# Altium schematic symbol library module&chips.SchLib: 53 symbols
Pins are listed as number, name and electrical type; pins without a type are passive.

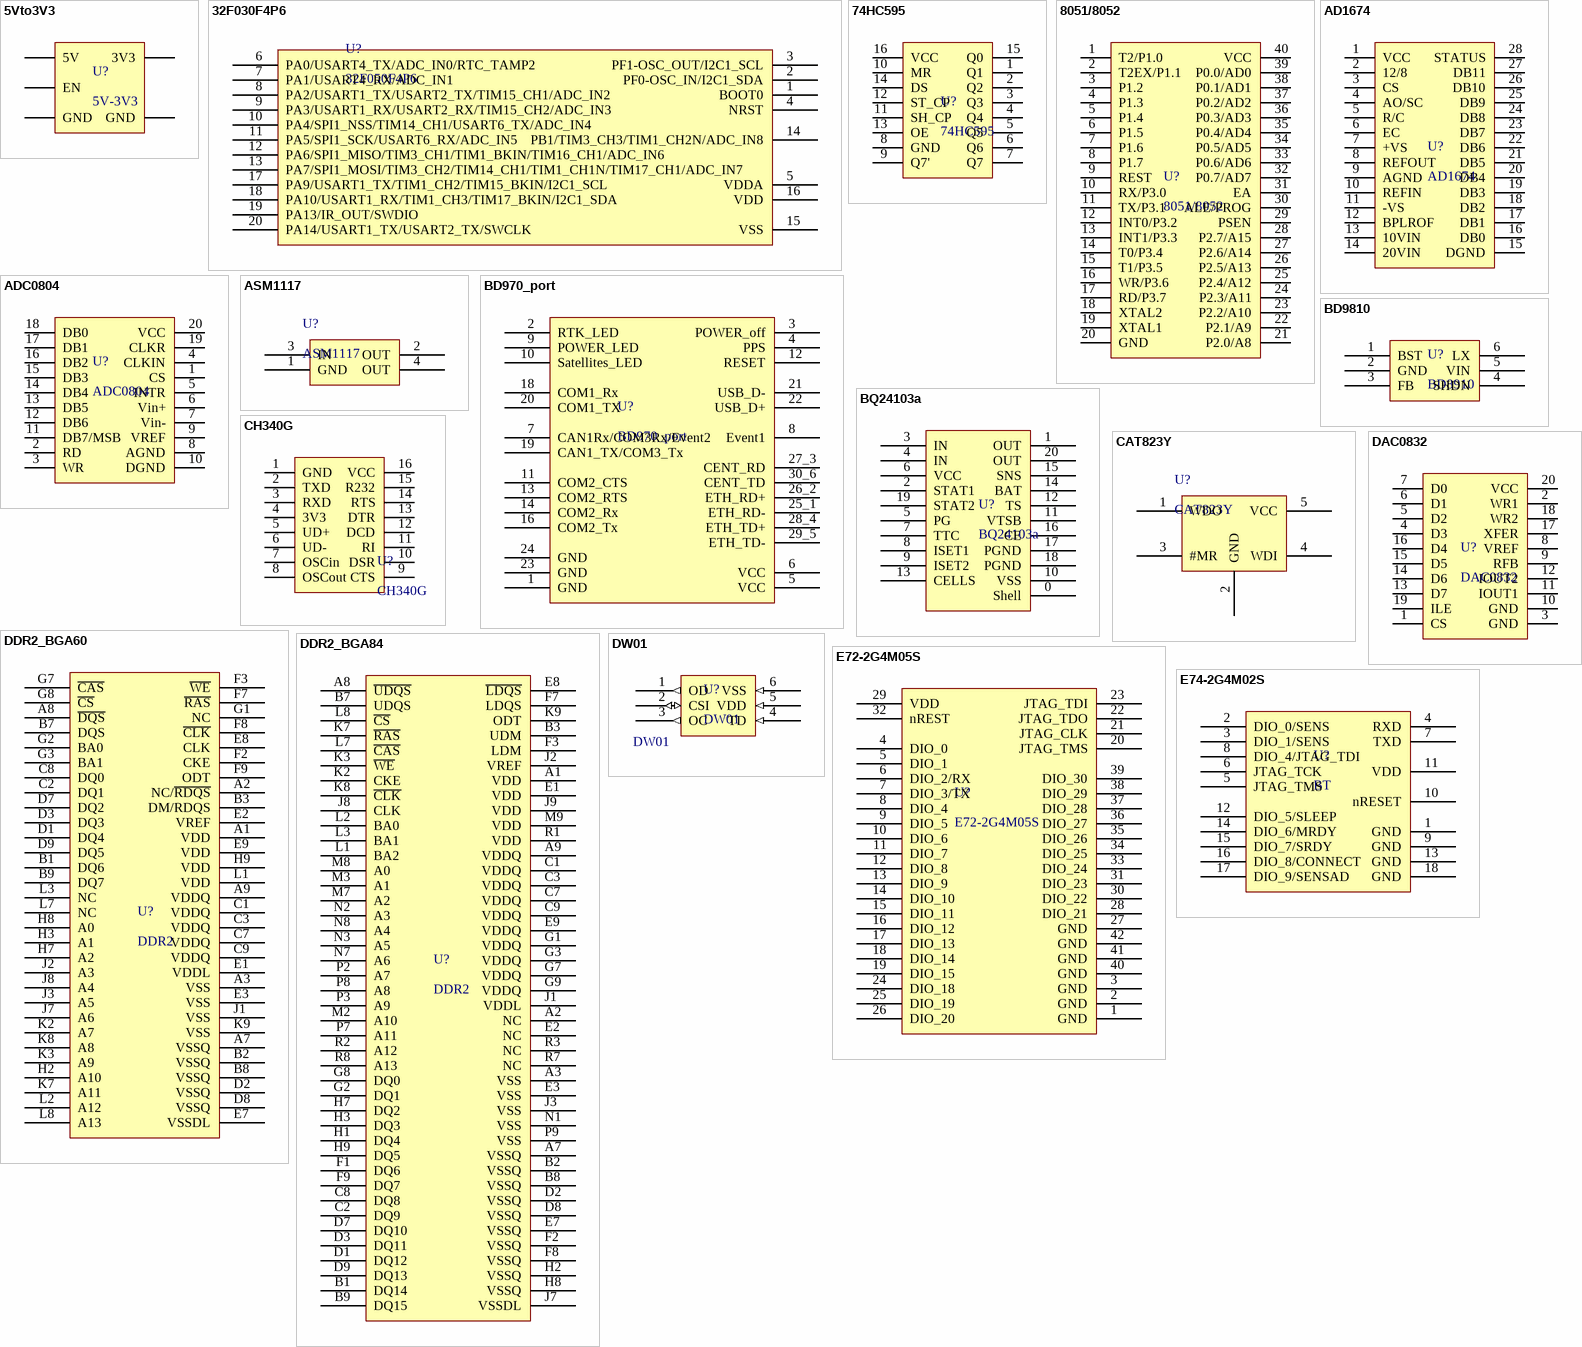
[diagram p0: symbols 5Vto3V3 to E74-2G4M02S]

## 5Vto3V3
designator U?, comment 5V-3V3
5V转3V3模块
footprint 5V-3V3module (5V转3.3V模块)
pins: 1 5V, 2 EN, 3 GND, 4 GND, 5 3V3

## 32F030F4P6
designator U?, comment 32F050F4P6
MCU
footprint TSSOP20
pins: 1 BOOT0, 2 PF0-OSC_IN/I2C1_SDA, 3 PF1-OSC_OUT/I2C1_SCL, 4 NRST, 5 VDDA, 6 PA0/USART4_TX/ADC_IN0/RTC_TAMP2, 7 PA1/USART4_RX/ADC_IN1, 8 PA2/USART1_TX/USART2_TX/TIM15_CH1/ADC_IN2, 9 PA3/USART1_RX/USART2_RX/TIM15_CH2/ADC_IN3, 10 PA4/SPI1_NSS/TIM14_CH1/USART6_TX/ADC_IN4, 11 PA5/SPI1_SCK/USART6_RX/ADC_IN5, 12 PA6/SPI1_MISO/TIM3_CH1/TIM1_BKIN/TIM16_CH1/ADC_IN6, 13 PA7/SPI1_MOSI/TIM3_CH2/TIM14_CH1/TIM1_CH1N/TIM17_CH1/ADC_IN7, 14 PB1/TIM3_CH3/TIM1_CH2N/ADC_IN8, 15 VSS, 16 VDD, 17 PA9/USART1_TX/TIM1_CH2/TIM15_BKIN/I2C1_SCL, 18 PA10/USART1_RX/TIM1_CH3/TIM17_BKIN/I2C1_SDA, 19 PA13/IR_OUT/SWDIO, 20 PA14/USART1_TX/USART2_TX/SWCLK (oc)

## 74HC595
designator U?
IO拓展
footprint DIP16
pins: 1 Q1, 2 Q2, 3 Q3, 4 Q4, 5 Q5, 6 Q6, 7 Q7, 8 GND, 9 Q7', 10 MR, 11 SH_CP, 12 ST_CP, 13 OE, 14 DS, 15 Q0, 16 VCC

## 8051/8052
designator U?
MCU
footprint DIP40
pins: 1 T2/P1.0, 2 T2EX/P1.1, 3 P1.2, 4 P1.3, 5 P1.4, 6 P1.5, 7 P1.6, 8 P1.7, 9 REST, 10 RX/P3.0, 11 TX/P3.1, 12 INT0/P3.2, 13 INT1/P3.3, 14 T0/P3.4, 15 T1/P3.5, 16 WR/P3.6, 17 RD/P3.7, 18 XTAL2, 19 XTAL1, 20 GND, 21 P2.0/A8, 22 P2.1/A9, 23 P2.2/A10, 24 P2.3/A11, 25 P2.4/A12, 26 P2.5/A13, 27 P2.6/A14, 28 P2.7/A15, 29 PSEN, 30 ALE/PROG, 31 EA, 32 P0.7/AD7, 33 P0.6/AD6, 34 P0.5/AD5, 35 P0.4/AD4, 36 P0.3/AD3, 37 P0.2/AD2, 38 P0.1/AD1, 39 P0.0/AD0, 40 VCC

## AD1674
designator U?
模数转换
footprint SOP28
pins: 1 VCC, 2 12/8, 3 CS, 4 AO/SC, 5 R/C, 6 EC, 7 +VS, 8 REFOUT, 9 AGND, 10 REFIN, 11 -VS, 12 BPLROF, 13 10VIN, 14 20VIN, 15 DGND, 16 DB0, 17 DB1, 18 DB2, 19 DB3, 20 DB4, 21 DB5, 22 DB6, 23 DB7, 24 DB8, 25 DB9, 26 DB10, 27 DB11, 28 STATUS

## ADC0804
designator U?
8位模数转换
footprint DIP20
pins: 1 CS, 2 RD, 3 WR, 4 CLKIN, 5 INTR, 6 Vin+, 7 Vin-, 8 AGND, 9 VREF, 10 DGND, 11 DB7/MSB, 12 DB6, 13 DB5, 14 DB4, 15 DB3, 16 DB2, 17 DB1, 18 DB0, 19 CLKR, 20 VCC

## ASM1117
designator U?
3.3V稳压芯片
footprint SOT223
pins: 1 GND, 2 OUT, 3 IN, 4 OUT

## BD970_port
designator U?
BD970接口
footprint BD970
pins: 1 GND, 2 RTK_LED, 3 POWER_off, 4 PPS, 5 VCC, 6 VCC, 7 CAN1Rx/COM3Rx/Event2, 8 Event1, 9 POWER_LED, 10 Satellites_LED, 11 COM2_CTS, 12 RESET, 13 COM2_RTS, 14 COM2_Rx, 16 COM2_Tx, 18 COM1_Rx, 19 CAN1_TX/COM3_Tx, 20 COM1_TX, 21 USB_D-, 22 USB_D+, 23 GND, 24 GND, 25_1 ETH_RD-, 26_2 ETH_RD+, 27_3 CENT_RD, 28_4 ETH_TD+, 29_5 ETH_TD-, 30_6 CENT_TD

## BD9810
designator U?, comment BD8910
4.5-21V_Vin_to_0.8-18.7V_OUT_2A
footprint SOT23-6 (SOT23, 6-Leads, Body 2.90x2.80mm, Pitch 0.95mm, IPC Medium Density)
pins: 1 BST, 2 GND, 3 FB, 4 SHDN, 5 VIN, 6 LX

## BQ24103a
designator U?
Li_Charge_BQ24103a
footprint QFN20_pad (QFN, 20-Leads, Body 4.50x3.50mm, Pitch 0.50mm/1.50mm, Thermal Pad 3.05x2.05mm, IPC Medium Density)
pins: 0 Shell, 1 OUT, 2 STAT1, 3 IN, 4 IN, 5 PG, 6 VCC, 7 TTC, 8 ISET1, 9 ISET2, 10 VSS, 11 VTSB, 12 TS, 13 CELLS, 14 BAT, 15 SNS, 16 CE, 17 PGND, 18 PGND, 19 STAT2, 20 OUT

## CAT823Y
designator U?
看门狗
footprint SOT23-5
pins: 1 WDO, 2 GND, 3 #MR, 4 WDI, 5 VCC

## CH340G
designator U?
USB转串口
pins: 1 GND, 2 TXD, 3 RXD, 4 3V3, 5 UD+, 6 UD-, 7 OSCin, 8 OSCout, 9 CTS, 10 DSR, 11 RI, 12 DCD, 13 DTR, 14 RTS, 15 R232, 16 VCC

## DAC0832
designator U?
8位数模转换
footprint DIP20
pins: 1 CS, 2 WR1, 3 GND, 4 D3, 5 D2, 6 D1, 7 D0, 8 VREF, 9 RFB, 10 GND, 11 IOUT1, 12 IOUT2, 13 D7, 14 D6, 15 D5, 16 D4, 17 XFER, 18 WR2, 19 ILE, 20 VCC

## DDR2_BGA60
designator U?, comment DDR2
DDR2_BGA60
footprint DDR2_BGA60
pins: A1 VDD, A2 NC/~{RDQS}, A3 VSS, A7 VSSQ, A8 ~{DQS}, A9 VDDQ, B1 DQ6, B2 VSSQ, B3 DM/RDQS, B7 DQS, B8 VSSQ, B9 DQ7, C1 VDDQ, C2 DQ1, C3 VDDQ, C7 VDDQ, C8 DQ0, C9 VDDQ, D1 DQ4, D2 VSSQ, D3 DQ3, D7 DQ2, D8 VSSQ, D9 DQ5, E1 VDDL, E2 VREF, E3 VSS, E7 VSSDL, E8 CLK, E9 VDD, F2 CKE, F3 ~{WE}, F7 ~{RAS}, F8 ~{CLK}, F9 ODT, G1 NC, G2 BA0, G3 BA1, G7 ~{CAS}, G8 ~{CS}, H2 A10, H3 A1, H7 A2, H8 A0, H9 VDD, J1 VSS, J2 A3, J3 A5, J7 A6, J8 A4, K2 A7, K3 A9, K7 A11, K8 A8, K9 VSS, L1 VDD, L2 A12, L3 NC, L7 NC, L8 A13

## DDR2_BGA84
designator U?, comment DDR2
DDR2_BGA84
footprint DDR2_BGA84
pins: A1 VDD, A2 NC, A3 VSS, A7 VSSQ, A8 ~{UDQS}, A9 VDDQ, B1 DQ14, B2 VSSQ, B3 UDM, B7 UDQS, B8 VSSQ, B9 DQ15, C1 VDDQ, C2 DQ9, C3 VDDQ, C7 VDDQ, C8 DQ8, C9 VDDQ, D1 DQ12, D2 VSSQ, D3 DQ11, D7 DQ10, D8 VSSQ, D9 DQ13, E1 VDD, E2 NC, E3 VSS, E7 VSSQ, E8 ~{LDQS}, E9 VDDQ, F1 DQ6, F2 VSSQ, F3 LDM, F7 LDQS, F8 VSSQ, F9 DQ7, G1 VDDQ, G2 DQ1, G3 VDDQ, G7 VDDQ, G8 DQ0, G9 VDDQ, H1 DQ4, H2 VSSQ, H3 DQ3, H7 DQ2, H8 VSSQ, H9 DQ5, J1 VDDL, J2 VREF, J3 VSS, J7 VSSDL, J8 CLK, J9 VDD, K2 CKE, K3 ~{WE}, K7 ~{RAS}, K8 ~{CLK}, K9 ODT, L1 BA2, L2 BA0, L3 BA1, L7 ~{CAS}, L8 ~{CS}, M2 A10, M3 A1, M7 A2, M8 A0, M9 VDD, N1 VSS, N2 A3, N3 A5, N7 A6, N8 A4, P2 A7, P3 A9, P7 A11, P8 A8, P9 VSS, R1 VDD, R2 A12, R3 NC, R7 NC, R8 A13

## DW01
designator U?
电池保护; Value: DW01
footprint DW01
pins: 1 OD (out), 2 CSI (io), 3 OC (out), 4 TD (in), 5 VDD (in), 6 VSS (in)

## E72-2G4M05S
designator U?
蓝牙
footprint E72-2G4M05S (低功耗蓝牙)
pins: 1 GND, 2 GND, 3 GND, 4 DIO_0, 5 DIO_1, 6 DIO_2/RX, 7 DIO_3/TX, 8 DIO_4, 9 DIO_5, 10 DIO_6, 11 DIO_7, 12 DIO_8, 13 DIO_9, 14 DIO_10, 15 DIO_11, 16 DIO_12, 17 DIO_13, 18 DIO_14, 19 DIO_15, 20 JTAG_TMS, 21 JTAG_CLK, 22 JTAG_TDO, 23 JTAG_TDI, 24 DIO_18, 25 DIO_19, 26 DIO_20, 27 GND, 28 DIO_21, 29 VDD, 30 DIO_22, 31 DIO_23, 32 nREST, 33 DIO_24, 34 DIO_25, 35 DIO_26, 36 DIO_27, 37 DIO_28, 38 DIO_29, 39 DIO_30, 40 GND, 41 GND, 42 GND

## E74-2G4M02S
designator U?, comment BT
蓝牙
footprint E74-2G45M02S (BT)
pins: 1 GND, 2 DIO_0/SENS, 3 DIO_1/SENS, 4 RXD, 5 JTAG_TMS, 6 JTAG_TCK, 7 TXD, 8 DIO_4/JTAG_TDI, 9 GND, 10 nRESET, 11 VDD, 12 DIO_5/SLEEP, 13 GND, 14 DIO_6/MRDY, 15 DIO_7/SRDY, 16 DIO_8/CONNECT, 17 DIO_9/SENSAD, 18 GND

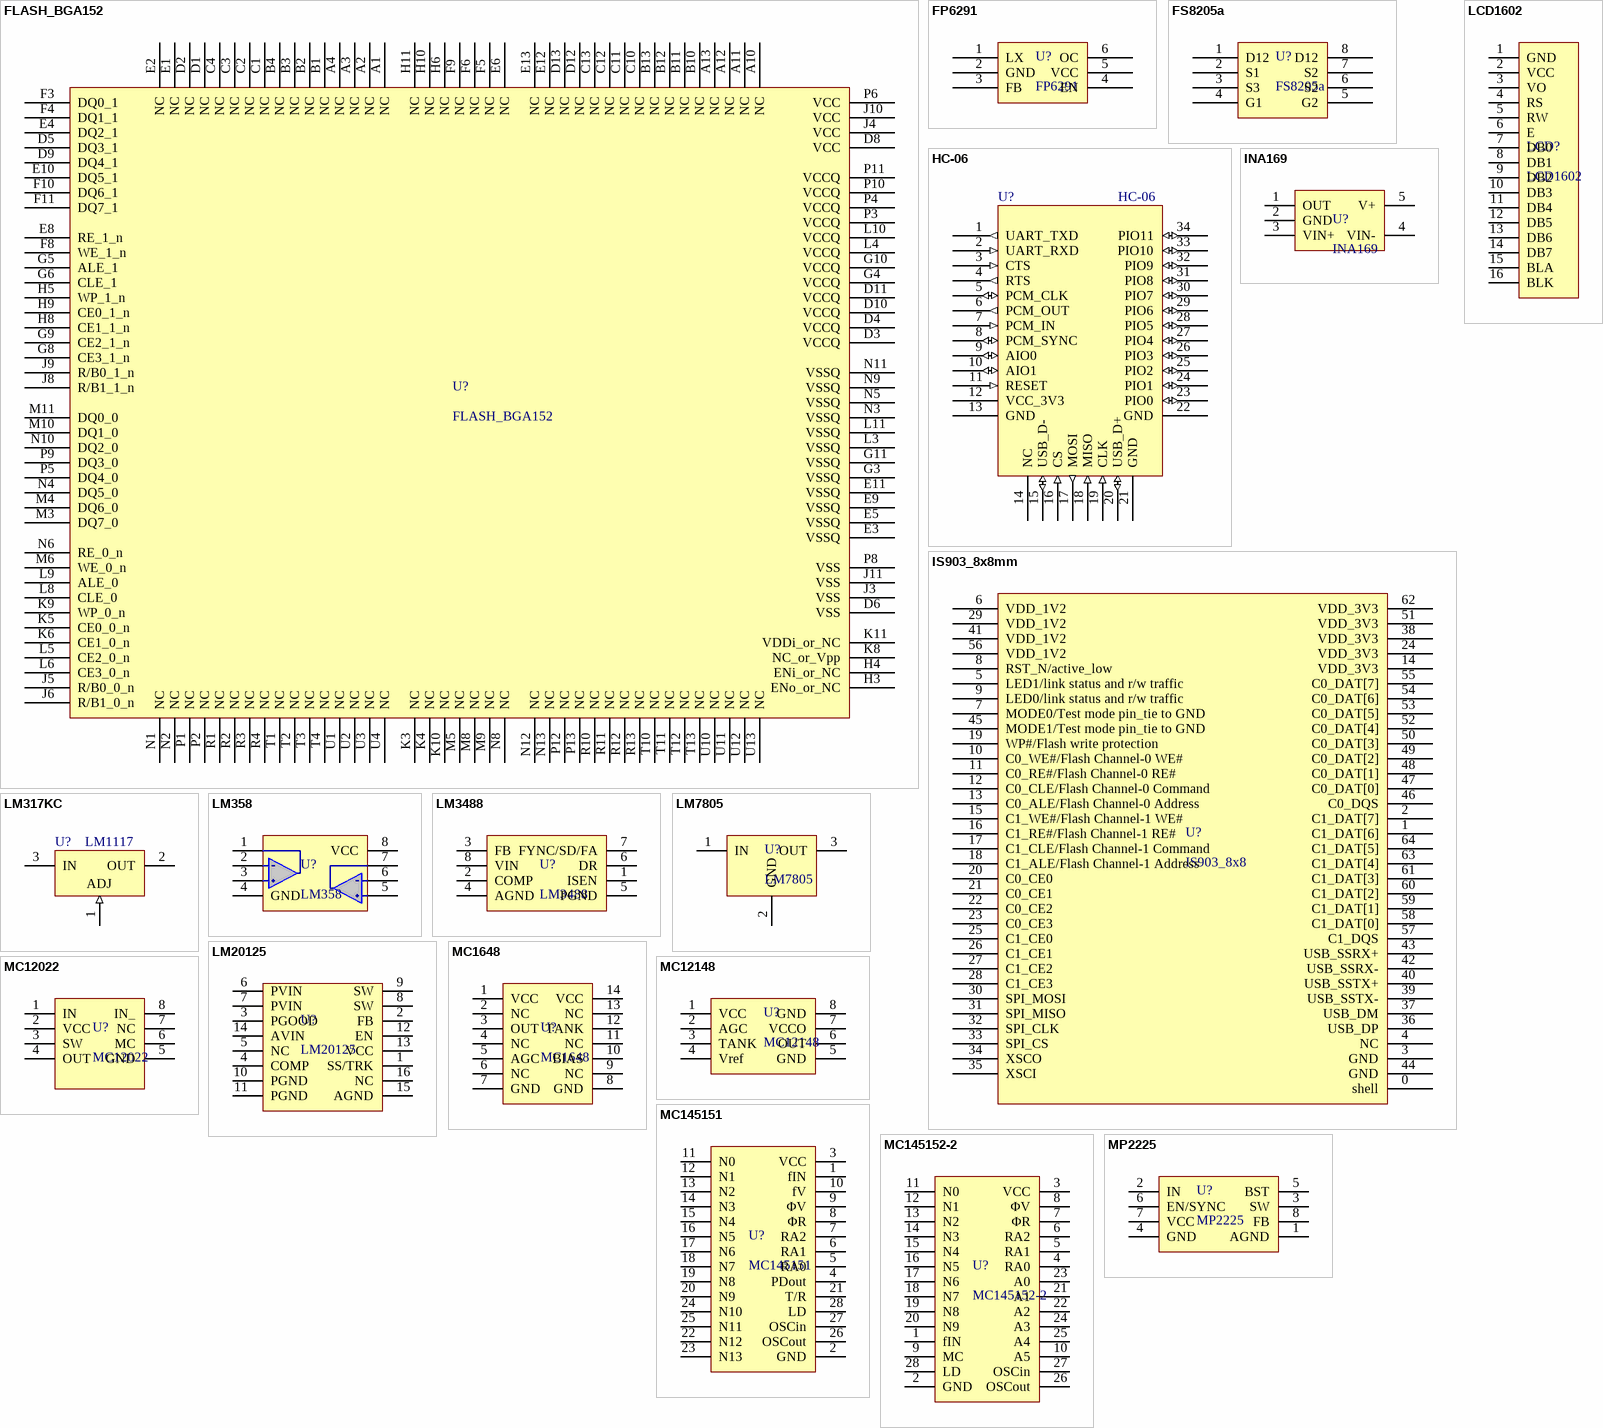
[diagram p1: symbols FLASH_BGA152 to MP2225]

## FLASH_BGA152
designator U?
footprint FLASH_BGA152
pins: A1 NC, A2 NC, A3 NC, A4 NC, A10 NC, A11 NC, A12 NC, A13 NC, B1 NC, B2 NC, B3 NC, B4 NC, B10 NC, B11 NC, B12 NC, B13 NC, C1 NC, C2 NC, C3 NC, C4 NC, C10 NC, C11 NC, C12 NC, C13 NC, D1 NC, D2 NC, D3 VCCQ, D4 VCCQ, D5 DQ3_1, D6 VSS, D8 VCC, D9 DQ4_1, D10 VCCQ, D11 VCCQ, D12 NC, D13 NC, E1 NC, E2 NC, E3 VSSQ, E4 DQ2_1, E5 VSSQ, E6 NC, E8 RE_1_n, E9 VSSQ, E10 DQ5_1, E11 VSSQ, E12 NC, E13 NC, F3 DQ0_1, F4 DQ1_1, F5 NC, F6 NC, F8 WE_1_n, F9 NC, F10 DQ6_1, F11 DQ7_1, G3 VSSQ, G4 VCCQ, G5 ALE_1, G6 CLE_1, G8 CE3_1_n, G9 CE2_1_n, G10 VCCQ, G11 VSSQ, H3 ENo_or_NC, H4 ENi_or_NC, H5 WP_1_n, H6 NC, H8 CE1_1_n, H9 CE0_1_n, H10 NC, H11 NC, J3 VSS, J4 VCC, J5 R/B0_0_n, J6 R/B1_0_n, J8 R/B1_1_n, J9 R/B0_1_n, J10 VCC, J11 VSS, K3 NC, K4 NC, K5 CE0_0_n, K6 CE1_0_n, K8 NC_or_Vpp, K9 WP_0_n, K10 NC, K11 VDDi_or_NC, L3 VSSQ, L4 VCCQ, L5 CE2_0_n, L6 CE3_0_n, L8 CLE_0, L9 ALE_0, L10 VCCQ, L11 VSSQ, M3 DQ7_0, M4 DQ6_0, M5 NC, M6 WE_0_n, M8 NC, M9 NC, M10 DQ1_0, M11 DQ0_0, N1 NC, N2 NC, N3 VSSQ, N4 DQ5_0, N5 VSSQ, N6 RE_0_n, N8 NC, N9 VSSQ, N10 DQ2_0, N11 VSSQ, N12 NC, N13 NC, P1 NC, P2 NC, P3 VCCQ, P4 VCCQ, P5 DQ4_0, P6 VCC, P8 VSS, P9 DQ3_0, P10 VCCQ, P11 VCCQ, P12 NC, P13 NC, R1 NC, R2 NC, R3 NC, R4 NC, R10 NC, R11 NC, R12 NC, R13 NC, T1 NC, T2 NC, T3 NC, T4 NC, T10 NC, T11 NC, T12 NC, T13 NC, U1 NC, U2 NC, U3 NC, U4 NC, U10 NC, U11 NC, U12 NC, U13 NC

## FP6291
designator U?
升压芯片
footprint SOT23-6 (SOT23, 6-Leads, Body 2.90x2.80mm, Pitch 0.95mm, IPC Medium Density)
pins: 1 LX, 2 GND, 3 FB, 4 EN, 5 VCC, 6 OC

## FS8205a
designator U?
mos管; Value: FS8205A
footprint FS8205A (3.03*4.5Mm)
pins: 1 D12, 2 S1, 3 S3, 4 G1, 5 G2, 6 S2, 7 S2, 8 D12

## HC-06
designator U?
蓝牙透传模块
footprint HC-06
pins: 1 UART_TXD (out), 2 UART_RXD (in), 3 CTS (in), 4 RTS (out), 5 PCM_CLK (io), 6 PCM_OUT (out), 7 PCM_IN (in), 8 PCM_SYNC (io), 9 AIO0 (io), 10 AIO1 (io), 11 RESET (in), 12 VCC_3V3 (power), 13 GND (power), 14 NC, 15 USB_D- (io), 16 CS (in), 17 MOSI (out), 18 MISO (in), 19 CLK (in), 20 USB_D+ (io), 21 GND (power), 22 GND (power), 23 PIO0 (io), 24 PIO1 (io), 25 PIO2 (io), 26 PIO3 (io), 27 PIO4 (io), 28 PIO5 (io), 29 PIO6 (io), 30 PIO7 (io), 31 PIO8 (io), 32 PIO9 (io), 33 PIO10 (io), 34 PIO11 (io)

## INA169
designator U?
电流测量
footprint SOT23-5 (SOT23, 5)
pins: 1 OUT, 2 GND, 3 VIN+, 4 VIN-, 5 V+

## IS903_8x8mm
designator U?, comment IS903_8x8
U盘主控
footprint QFN_64pin_8x8mm (QFN, 64-Leads, Body 8.00x8.00mm, Pitch 0.40mm, Thermal Pad 6.50x6.50mm, IPC Medium Density)
pins: 0 shell, 1 C1_DAT[6], 2 C1_DAT[7], 3 GND, 4 NC, 5 LED1/link status and r/w traffic, 6 VDD_1V2, 7 MODE0/Test mode pin_tie to GND, 8 RST_N/active_low, 9 LED0/link status and r/w traffic, 10 C0_WE#/Flash Channel-0 WE#, 11 C0_RE#/Flash Channel-0 RE#, 12 C0_CLE/Flash Channel-0 Command, 13 C0_ALE/Flash Channel-0 Address, 14 VDD_3V3, 15 C1_WE#/Flash Channel-1 WE#, 16 C1_RE#/Flash Channel-1 RE#, 17 C1_CLE/Flash Channel-1 Command, 18 C1_ALE/Flash Channel-1 Address, 19 WP#/Flash write protection, 20 C0_CE0, 21 C0_CE1, 22 C0_CE2, 23 C0_CE3, 24 VDD_3V3, 25 C1_CE0, 26 C1_CE1, 27 C1_CE2, 28 C1_CE3, 29 VDD_1V2, 30 SPI_MOSI, 31 SPI_MISO, 32 SPI_CLK, 33 SPI_CS, 34 XSCO, 35 XSCI, 36 USB_DP, 37 USB_DM, 38 VDD_3V3, 39 USB_SSTX-, 40 USB_SSTX+, 41 VDD_1V2, 42 USB_SSRX-, 43 USB_SSRX+, 44 GND, 45 MODE1/Test mode pin_tie to GND, 46 C0_DQS, 47 C0_DAT[0], 48 C0_DAT[1], 49 C0_DAT[2], 50 C0_DAT[3], 51 VDD_3V3, 52 C0_DAT[4], 53 C0_DAT[5], 54 C0_DAT[6], 55 C0_DAT[7], 56 VDD_1V2, 57 C1_DQS, 58 C1_DAT[0], 59 C1_DAT[1], 60 C1_DAT[2], 61 C1_DAT[3], 62 VDD_3V3, 63 C1_DAT[4], 64 C1_DAT[5]

## LCD1602
designator LCD?
LCDdisplay
pins: 1 GND, 2 VCC, 3 VO, 4 RS, 5 RW, 6 E, 7 DB0, 8 DB1, 9 DB2, 10 DB3, 11 DB4, 12 DB5, 13 DB6, 14 DB7, 15 BLA, 16 BLK

## LM317KC
designator U?, comment LM1117
3-Terminal Adjustable Regulator; Note: Pin 2 is electrically connected to tab; Published: 15-Apr-2002; DatasheetVersion: Feb-1988; PackageVersion: Sep-1995; PackageReference: KC03; Publisher: Altium Limited; PackageDescription: TO, Thru-Hole, Vertical, Heatsink Mounted; 3 In-Line Leads; Pitch 2.54 mm; ComponentLink1Description: Manufacturer Link; ComponentLink1URL: http://www.ti.com/
footprint AMS1117
pins: 1 ADJ (in), 2 OUT (power), 3 IN (power)

## LM358
designator U?
双路放大器
footprint SOIC-8
pins: 1, 2, 3, 4 GND, 5, 6, 7, 8 VCC

## LM3488
designator U?
升压芯片2.97~40V_IN
footprint VSSOP-8
pins: 1 ISEN, 2 COMP, 3 FB, 4 AGND, 5 PGND, 6 DR, 7 FYNC/SD/FA, 8 VIN

## LM7805
designator U?
线性降压12-5V
footprint TO-220AB
footprint TO-220AB&SR (带散热)
pins: 1 IN, 2 GND, 3 OUT

## LM20125
designator U?
降压芯片
footprint LM20125 (HTSSOP,16PIN)
pins: 1 SS/TRK, 2 FB, 3 PGOOD, 4 COMP, 5 NC, 6 PVIN, 7 PVIN, 8 SW, 9 SW, 10 PGND, 11 PGND, 12 EN, 13 VCC, 14 AVIN, 15 AGND, 16 NC

## MC1648
designator U?
VCO压控振荡器
footprint DIP14
pins: 1 VCC, 2 NC, 3 OUT, 4 NC, 5 AGC, 6 NC, 7 GND, 8 GND, 9 NC, 10 BIAS, 11 NC, 12 TANK, 13 NC, 14 VCC

## MC12022
designator U?
分频器_1.1GHz
footprint DIP8
pins: 1 IN, 2 VCC, 3 SW, 4 OUT, 5 GND, 6 MC, 7 NC, 8 IN_

## MC12148
designator U?
压控振荡器
footprint SOP-8
pins: 1 VCC, 2 AGC, 3 TANK, 4 Vref, 5 GND, 6 OUT, 7 VCCO, 8 GND

## MC145151
designator U?
PLL
footprint DIP28_W
pins: 1 fIN, 2 GND, 3 VCC, 4 PDout, 5 RA0, 6 RA1, 7 RA2, 8 ΦR, 9 ΦV, 10 fV, 11 N0, 12 N1, 13 N2, 14 N3, 15 N4, 16 N5, 17 N6, 18 N7, 19 N8, 20 N9, 21 T/R, 22 N12, 23 N13, 24 N10, 25 N11, 26 OSCout, 27 OSCin, 28 LD

## MC145152-2
designator U?
PLL
footprint DIP28_W
pins: 1 fIN, 2 GND, 3 VCC, 4 RA0, 5 RA1, 6 RA2, 7 ΦR, 8 ΦV, 9 MC, 10 A5, 11 N0, 12 N1, 13 N2, 14 N3, 15 N4, 16 N5, 17 N6, 18 N7, 19 N8, 20 N9, 21 A1, 22 A2, 23 A0, 24 A3, 25 A4, 26 OSCout, 27 OSCin, 28 LD

## MP2225
designator U?
4.5-18Vin_5Aoutput
footprint TSOT23-8 (TSOT23-8, 8-Leads, Body 2.90x1.60mm, Pitch 0.65mm)
pins: 1 AGND, 2 IN, 3 SW, 4 GND, 5 BST, 6 EN/SYNC, 7 VCC, 8 FB

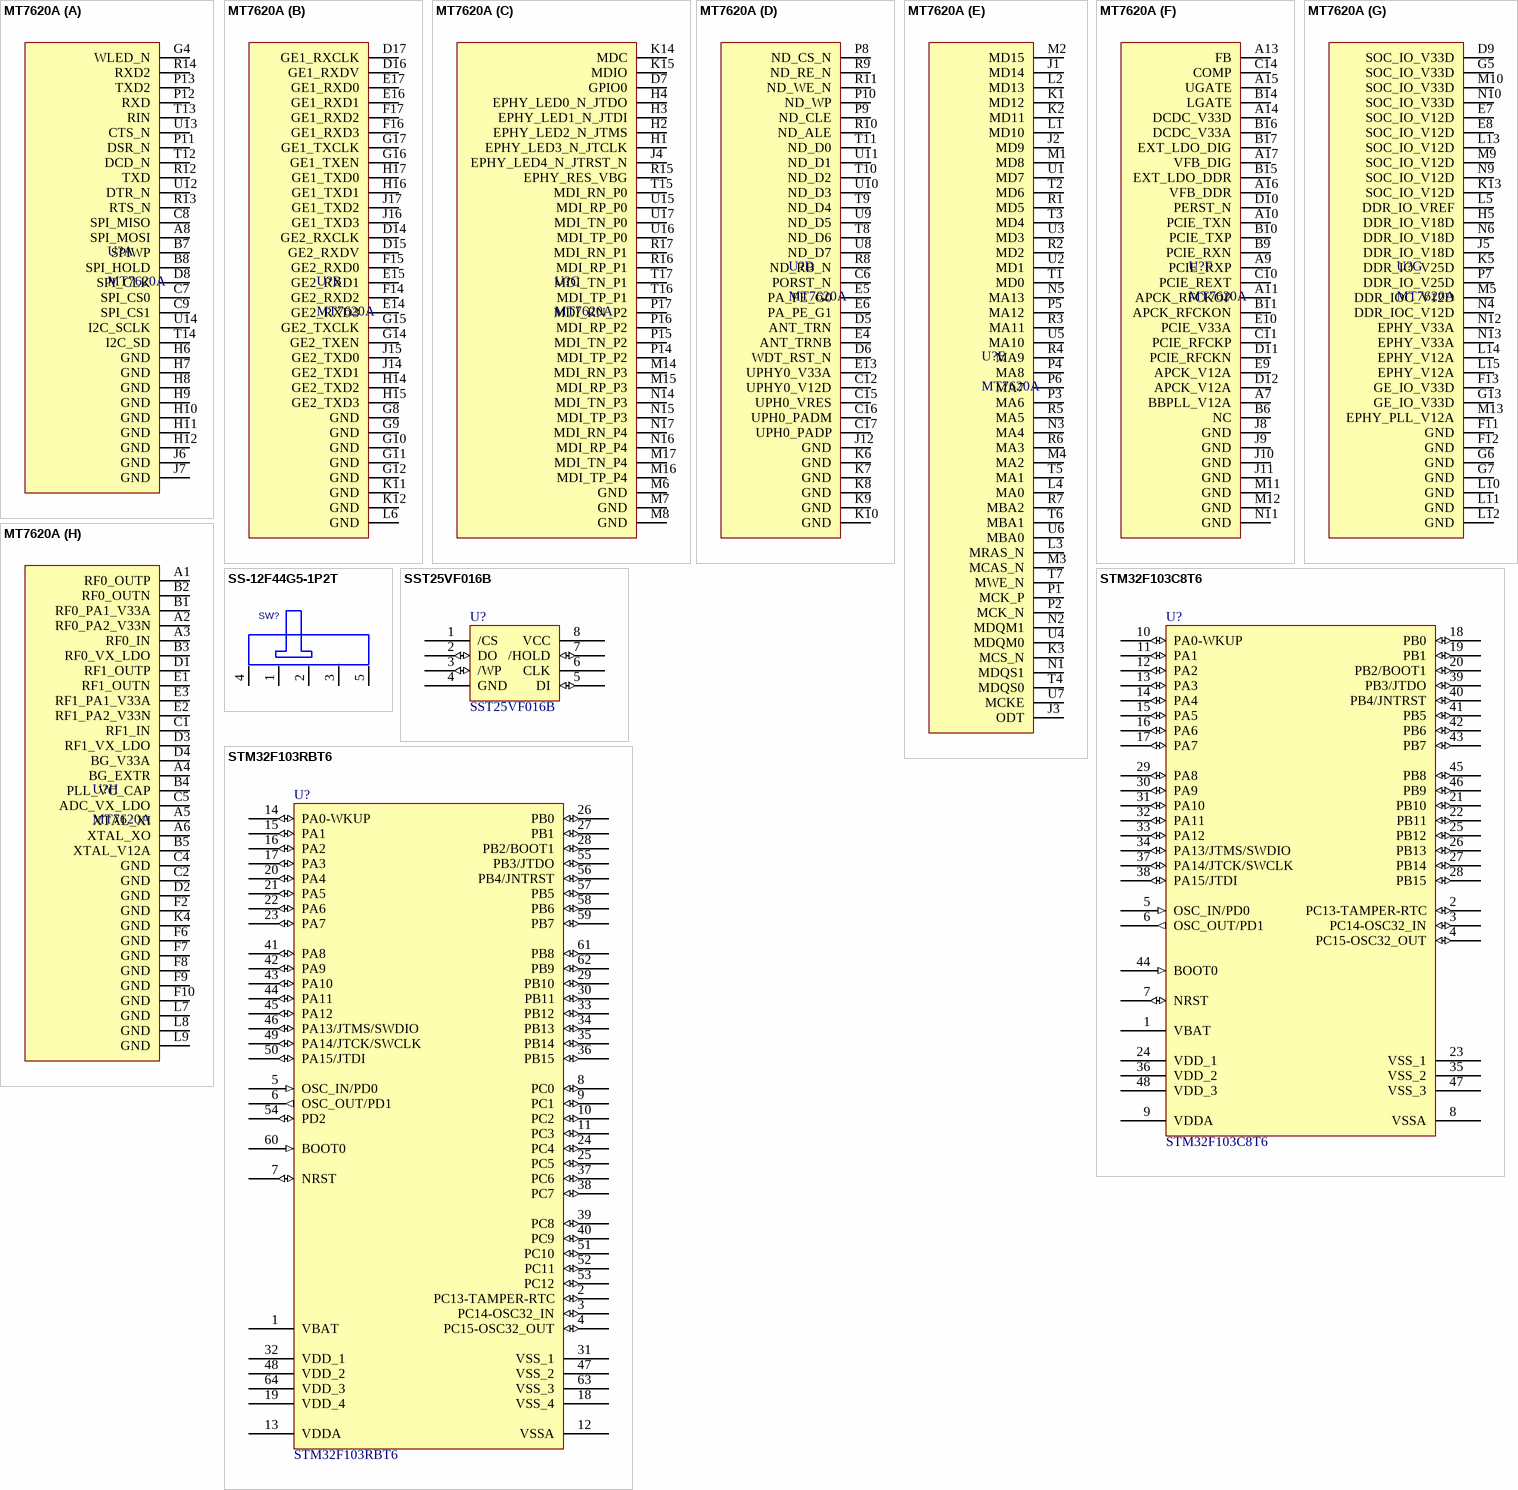
[diagram p2: symbols MT7620A to STM32F103RBT6]

## MT7620A
designator U?
路由器芯片
part A pins: A8 SPI_MOSI, B7 SPIWP, B8 SPI_HOLD, C7 SPI_CS0, C8 SPI_MISO, C9 SPI_CS1, D8 SPI_CLK, G4 WLED_N "4mA", H6 GND, H7 GND, H8 GND, H9 GND, H10 GND, H11 GND, H12 GND, J6 GND, J7 GND, P11 DSR_N, P12 RXD, P13 TXD2 "4mA", R12 TXD, R13 RTS_N, R14 RXD2 "4mA", T12 DCD_N, T13 RIN, T14 I2C_SD, U12 DTR_N, U13 CTS_N, U14 I2C_SCLK
part B pins: D14 GE2_RXCLK, D15 GE2_RXDV, D16 GE1_RXDV, D17 GE1_RXCLK, E14 GE2_RXD3, E15 GE2_RXD1, E16 GE1_RXD1, E17 GE1_RXD0, F14 GE2_RXD2, F15 GE2_RXD0, F16 GE1_RXD3, F17 GE1_RXD2, G8 GND, G9 GND, G10 GND, G11 GND, G12 GND, G14 GE2_TXEN, G15 GE2_TXCLK, G16 GE1_TXEN, G17 GE1_TXCLK, H14 GE2_TXD2, H15 GE2_TXD3, H16 GE1_TXD1, H17 GE1_TXD0, J14 GE2_TXD1, J15 GE2_TXD0, J16 GE1_TXD3, J17 GE1_TXD2, K11 GND, K12 GND, L6 GND
part C pins: D7 GPIO0, H1 EPHY_LED3_N_JTCLK, H2 EPHY_LED2_N_JTMS, H3 EPHY_LED1_N_JTDI, H4 EPHY_LED0_N_JTDO, J4 EPHY_LED4_N_JTRST_N, K14 MDC, K15 MDIO, M6 GND, M7 GND, M8 GND, M14 MDI_RN_P3, M15 MDI_RP_P3, M16 MDI_TP_P4, M17 MDI_TN_P4, N14 MDI_TN_P3, N15 MDI_TP_P3, N16 MDI_RP_P4, N17 MDI_RN_P4, P14 MDI_TP_P2, P15 MDI_TN_P2, P16 MDI_RP_P2, P17 MDI_RN_P2, R15 EPHY_RES_VBG, R16 MDI_RP_P1, R17 MDI_RN_P1, T15 MDI_RN_P0, T16 MDI_TP_P1, T17 MDI_TN_P1, U15 MDI_RP_P0, U16 MDI_TP_P0, U17 MDI_TN_P0
part D pins: C6 PORST_N, C12 UPHY0_V12D, C15 UPH0_VRES, C16 UPH0_PADM, C17 UPH0_PADP, D5 ANT_TRN, D6 WDT_RST_N, E4 ANT_TRNB, E5 PA_PE_G0, E6 PA_PE_G1, E13 UPHY0_V33A, J12 GND, K6 GND, K7 GND, K8 GND, K9 GND, K10 GND, P8 ND_CS_N, P9 ND_CLE, P10 ND_WP, R8 ND_RB_N, R9 ND_RE_N, R10 ND_ALE, R11 ND_WE_N, T8 ND_D6, T9 ND_D4, T10 ND_D2, T11 ND_D0, U8 ND_D7, U9 ND_D5, U10 ND_D3, U11 ND_D1
part E pins: J1 MD14, J2 MD9, J3 ODT, K1 MD12, K2 MD11, K3 MCS_N, L1 MD10, L2 MD13, L3 MRAS_N, L4 MA0, M1 MD8, M2 MD15, M3 MCAS_N, M4 MA2, N1 MDQS1, N2 MDQM1, N3 MA4, N5 MA13, P1 MCK_P, P2 MCK_N, P3 MA6, P4 MA8, P5 MA12, P6 MA7, R1 MD5, R2 MD2, R3 MA11, R4 MA9, R5 MA5, R6 MA3, R7 MBA2, T1 MD0, T2 MD6, T3 MD4, T4 MDQS0, T5 MA1, T6 MBA1, T7 MWE_N, U1 MD7, U2 MD1, U3 MD3, U4 MDQM0, U5 MA10, U6 MBA0, U7 MCKE
part F pins: A7 BBPLL_V12A, A9 PCIE_RXP, A10 PCIE_TXN, A11 APCK_RFCKOP, A13 FB, A14 DCDC_V33D, A15 UGATE, A16 VFB_DDR, A17 VFB_DIG, B6 NC, B9 PCIE_RXN, B10 PCIE_TXP, B11 APCK_RFCKON, B14 LGATE, B15 EXT_LDO_DDR, B16 DCDC_V33A, B17 EXT_LDO_DIG, C10 PCIE_REXT, C11 PCIE_RFCKP, C14 COMP, D10 PERST_N, D11 PCIE_RFCKN, D12 APCK_V12A, E9 APCK_V12A, E10 PCIE_V33A, J8 GND, J9 GND, J10 GND, J11 GND, M11 GND, M12 GND, N11 GND
part G pins: D9 SOC_IO_V33D, E7 SOC_IO_V12D, E8 SOC_IO_V12D, F11 GND, F12 GND, F13 GE_IO_V33D, G5 SOC_IO_V33D, G6 GND, G7 GND, G13 GE_IO_V33D, H5 DDR_IO_V18D, J5 DDR_IO_V18D, K5 DDR_IO_V25D, K13 SOC_IO_V12D, L5 DDR_IO_VREF, L10 GND, L11 GND, L12 GND, L13 SOC_IO_V12D, L14 EPHY_V12A, L15 EPHY_V12A, M5 DDR_IOC_V12D, M9 SOC_IO_V12D, M10 SOC_IO_V33D, M13 EPHY_PLL_V12A, N4 DDR_IOC_V12D, N6 DDR_IO_V18D, N9 SOC_IO_V12D, N10 SOC_IO_V33D, N12 EPHY_V33A, N13 EPHY_V33A, P7 DDR_IO_V25D
part H pins: A1 RF0_OUTP, A2 RF0_PA2_V33N, A3 RF0_IN, A4 BG_EXTR, A5 XTAL_XI, A6 XTAL_XO, B1 RF0_PA1_V33A, B2 RF0_OUTN, B3 RF0_VX_LDO, B4 PLL_VC_CAP, B5 XTAL_V12A, C1 RF1_IN, C2 GND, C4 GND, C5 ADC_VX_LDO, D1 RF1_OUTP, D2 GND, D3 RF1_VX_LDO, D4 BG_V33A, E1 RF1_OUTN, E2 RF1_PA2_V33N, E3 RF1_PA1_V33A, F2 GND, F6 GND, F7 GND, F8 GND, F9 GND, F10 GND, K4 GND, L7 GND, L8 GND, L9 GND

## SS-12F44G5-1P2T
designator SW?  (value not drawn)
PCB DECAL: SS-12F44G5-1P2T
footprint SS-12F44G5-1P2T
pins: 1, 2, 3, 4, 5

## SST25VF016B
designator U?
footprint SOIC8_W (SPI_FLASH)
pins: 1 /CS, 2 DO (io), 3 /WP (io), 4 GND (power), 5 DI (io), 6 CLK, 7 /HOLD (io), 8 VCC (power)

## STM32F103C8T6
designator U?
STM32 ARM-based 32-bit MCU with 64 Kbytes Flash, 48-pin LQFP, Industrial Temperature; Published: 30-May-2008; DatasheetVersion: rev6, Mar-2008; PackageVersion: Mar-2008; PackageReference: LQFP48; Publisher: Altium Limited; PackageDescription: 48-Pin Low-Profile Quad Flat Pack, 7 x 7 mm Body, 0.5 mm Pitch (LQFP48); ComponentLink1Description: Manufacturer Link; ComponentLink1URL: www.st.com/stm32; ComponentLink2Description: Datasheet; ComponentLink2URL: http://www.st.com/stonline/products/literature/ds/13587.pdf
footprint LQFP_48N (LQFP, 48-Leads, Body 9.00x9.00mm, Pitch 0.50mm, IPC Medium Density)
pins: 1 VBAT (power), 2 PC13-TAMPER-RTC (io), 3 PC14-OSC32_IN (io), 4 PC15-OSC32_OUT (io), 5 OSC_IN/PD0 (in), 6 OSC_OUT/PD1 (out), 7 NRST (io), 8 VSSA (power), 9 VDDA (power), 10 PA0-WKUP (io), 11 PA1 (io), 12 PA2 (io), 13 PA3 (io), 14 PA4 (io), 15 PA5 (io), 16 PA6 (io), 17 PA7 (io), 18 PB0 (io), 19 PB1 (io), 20 PB2/BOOT1 (io), 21 PB10 (io), 22 PB11 (io), 23 VSS_1 (power), 24 VDD_1 (power), 25 PB12 (io), 26 PB13 (io), 27 PB14 (io), 28 PB15 (io), 29 PA8 (io), 30 PA9 (io), 31 PA10 (io), 32 PA11 (io), 33 PA12 (io), 34 PA13/JTMS/SWDIO (io), 35 VSS_2 (power), 36 VDD_2 (power), 37 PA14/JTCK/SWCLK (io), 38 PA15/JTDI (io), 39 PB3/JTDO (io), 40 PB4/JNTRST (io), 41 PB5 (io), 42 PB6 (io), 43 PB7 (io), 44 BOOT0 (in), 45 PB8 (io), 46 PB9 (io), 47 VSS_3 (power), 48 VDD_3 (power)

## STM32F103RBT6
designator U?
STM32 ARM-based 32-bit MCU with 128 Kbytes Flash, 64-pin LQFP, Industrial Temperature; Published: 30-May-2008; DatasheetVersion: rev6, Mar-2008; PackageVersion: Mar-2008; PackageReference: LQFP64; Publisher: Altium Limited; PackageDescription: 64-Pin Low-Profile Quad Flat Pack, 10 x 10 mm Body, 0.5 mm Pitch (LQFP64); ComponentLink1Description: Manufacturer Link; ComponentLink1URL: www.st.com/stm32; ComponentLink2Description: Datasheet; ComponentLink2URL: http://www.st.com/stonline/products/literature/ds/13587.pdf
footprint LQFP64_N (Thin QFP, 64-Leads, Body 10x10mm, Pitch 0.5mm, IPC Medium Density)
pins: 1 VBAT (power), 2 PC13-TAMPER-RTC (io), 3 PC14-OSC32_IN (io), 4 PC15-OSC32_OUT (io), 5 OSC_IN/PD0 (in), 6 OSC_OUT/PD1 (out), 7 NRST (io), 8 PC0 (io), 9 PC1 (io), 10 PC2 (io), 11 PC3 (io), 12 VSSA (power), 13 VDDA (power), 14 PA0-WKUP (io), 15 PA1 (io), 16 PA2 (io), 17 PA3 (io), 18 VSS_4 (power), 19 VDD_4 (power), 20 PA4 (io), 21 PA5 (io), 22 PA6 (io), 23 PA7 (io), 24 PC4 (io), 25 PC5 (io), 26 PB0 (io), 27 PB1 (io), 28 PB2/BOOT1 (io), 29 PB10 (io), 30 PB11 (io), 31 VSS_1 (power), 32 VDD_1 (power), 33 PB12 (io), 34 PB13 (io), 35 PB14 (io), 36 PB15 (io), 37 PC6 (io), 38 PC7 (io), 39 PC8 (io), 40 PC9 (io), 41 PA8 (io), 42 PA9 (io), 43 PA10 (io), 44 PA11 (io), 45 PA12 (io), 46 PA13/JTMS/SWDIO (io), 47 VSS_2 (power), 48 VDD_2 (power), 49 PA14/JTCK/SWCLK (io), 50 PA15/JTDI (io), 51 PC10 (io), 52 PC11 (io), 53 PC12 (io), 54 PD2 (io), 55 PB3/JTDO (io), 56 PB4/JNTRST (io), 57 PB5 (io), 58 PB6 (io), 59 PB7 (io), 60 BOOT0 (in), 61 PB8 (io), 62 PB9 (io), 63 VSS_3 (power), 64 VDD_3 (power)

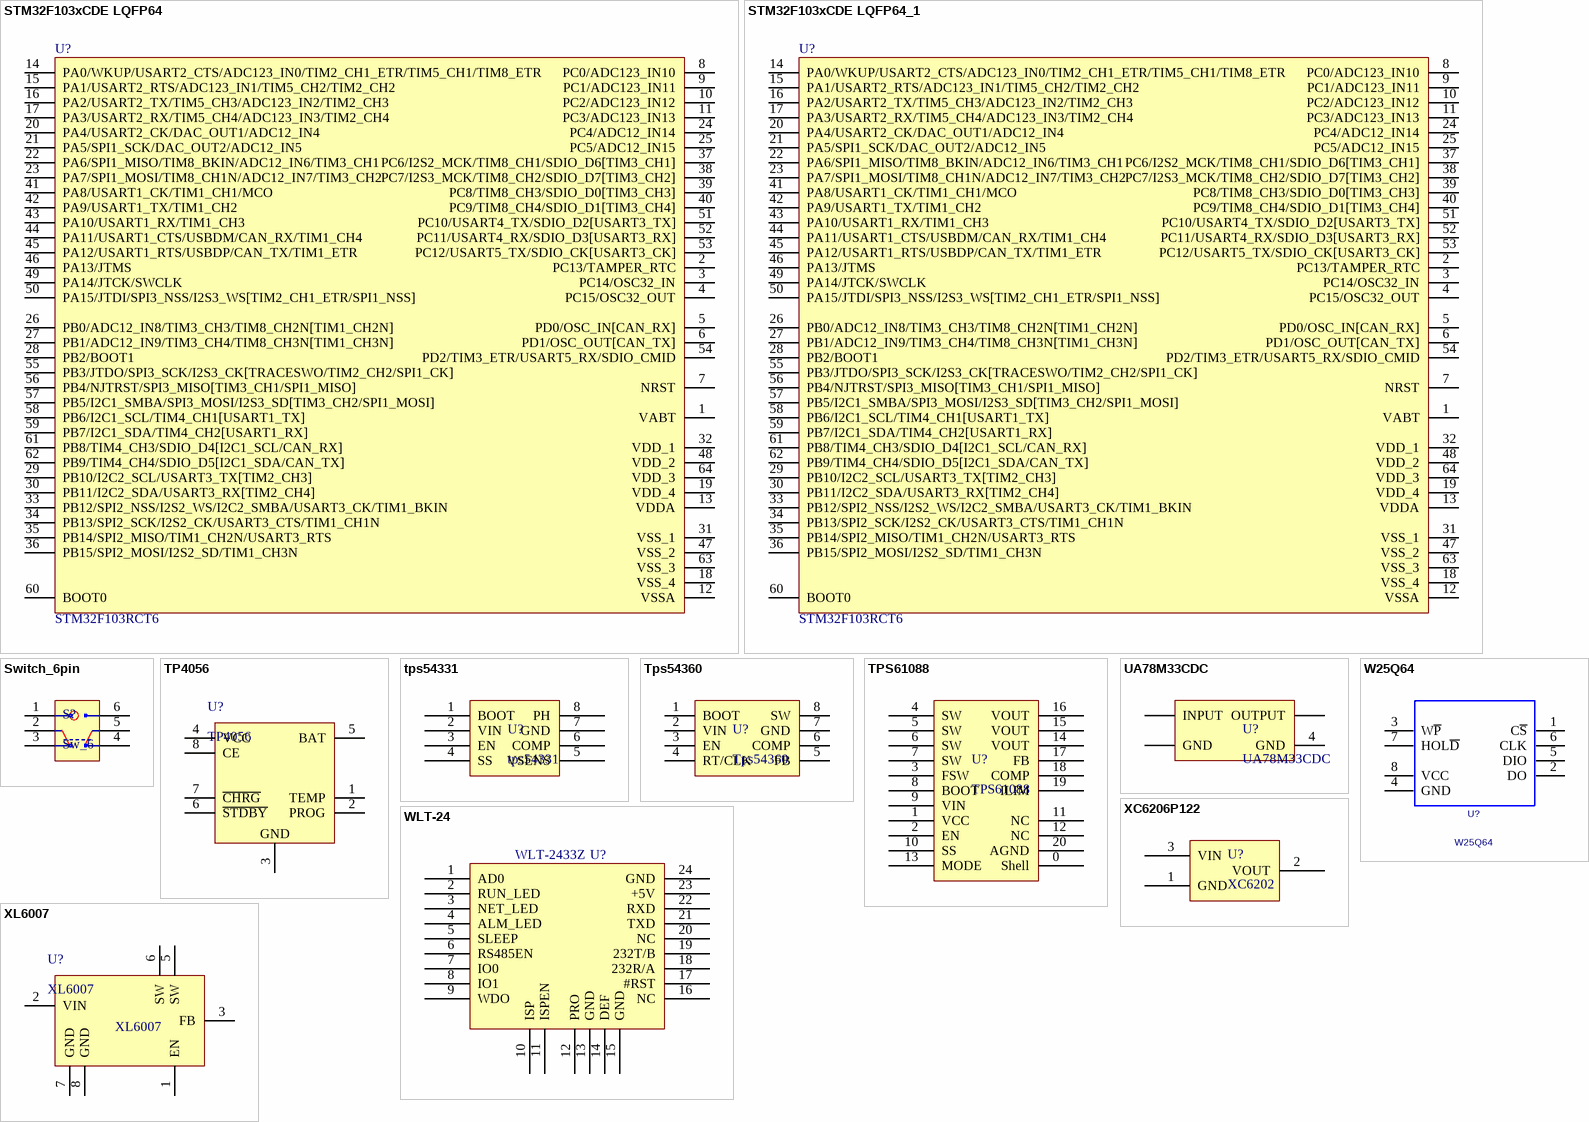
[diagram p3: symbols STM32F103xCDE LQFP64 to XL6007]

## STM32F103xCDE LQFP64
designator U?, comment STM32F103RCT6
footprint STM-LQFP64_V (Thin QFP, 64-Leads, Body 10x10mm, Pitch 0.5mm, ST Recommended)
pins: 1 VABT, 2 PC13/TAMPER_RTC, 3 PC14/OSC32_IN, 4 PC15/OSC32_OUT, 5 PD0/OSC_IN[CAN_RX], 6 PD1/OSC_OUT[CAN_TX], 7 NRST, 8 PC0/ADC123_IN10, 9 PC1/ADC123_IN11, 10 PC2/ADC123_IN12, 11 PC3/ADC123_IN13, 12 VSSA, 13 VDDA, 14 PA0/WKUP/USART2_CTS/ADC123_IN0/TIM2_CH1_ETR/TIM5_CH1/TIM8_ETR, 15 PA1/USART2_RTS/ADC123_IN1/TIM5_CH2/TIM2_CH2, 16 PA2/USART2_TX/TIM5_CH3/ADC123_IN2/TIM2_CH3, 17 PA3/USART2_RX/TIM5_CH4/ADC123_IN3/TIM2_CH4, 18 VSS_4, 19 VDD_4, 20 PA4/USART2_CK/DAC_OUT1/ADC12_IN4, 21 PA5/SPI1_SCK/DAC_OUT2/ADC12_IN5, 22 PA6/SPI1_MISO/TIM8_BKIN/ADC12_IN6/TIM3_CH1, 23 PA7/SPI1_MOSI/TIM8_CH1N/ADC12_IN7/TIM3_CH2, 24 PC4/ADC12_IN14, 25 PC5/ADC12_IN15, 26 PB0/ADC12_IN8/TIM3_CH3/TIM8_CH2N[TIM1_CH2N], 27 PB1/ADC12_IN9/TIM3_CH4/TIM8_CH3N[TIM1_CH3N], 28 PB2/BOOT1, 29 PB10/I2C2_SCL/USART3_TX[TIM2_CH3], 30 PB11/I2C2_SDA/USART3_RX[TIM2_CH4], 31 VSS_1, 32 VDD_1, 33 PB12/SPI2_NSS/I2S2_WS/I2C2_SMBA/USART3_CK/TIM1_BKIN, 34 PB13/SPI2_SCK/I2S2_CK/USART3_CTS/TIM1_CH1N, 35 PB14/SPI2_MISO/TIM1_CH2N/USART3_RTS, 36 PB15/SPI2_MOSI/I2S2_SD/TIM1_CH3N, 37 PC6/I2S2_MCK/TIM8_CH1/SDIO_D6[TIM3_CH1], 38 PC7/I2S3_MCK/TIM8_CH2/SDIO_D7[TIM3_CH2], 39 PC8/TIM8_CH3/SDIO_D0[TIM3_CH3], 40 PC9/TIM8_CH4/SDIO_D1[TIM3_CH4], 41 PA8/USART1_CK/TIM1_CH1/MCO, 42 PA9/USART1_TX/TIM1_CH2, 43 PA10/USART1_RX/TIM1_CH3, 44 PA11/USART1_CTS/USBDM/CAN_RX/TIM1_CH4, 45 PA12/USART1_RTS/USBDP/CAN_TX/TIM1_ETR, 46 PA13/JTMS, 47 VSS_2, 48 VDD_2, 49 PA14/JTCK/SWCLK, 50 PA15/JTDI/SPI3_NSS/I2S3_WS[TIM2_CH1_ETR/SPI1_NSS], 51 PC10/USART4_TX/SDIO_D2[USART3_TX], 52 PC11/USART4_RX/SDIO_D3[USART3_RX], 53 PC12/USART5_TX/SDIO_CK[USART3_CK], 54 PD2/TIM3_ETR/USART5_RX/SDIO_CMID, 55 PB3/JTDO/SPI3_SCK/I2S3_CK[TRACESWO/TIM2_CH2/SPI1_CK], 56 PB4/NJTRST/SPI3_MISO[TIM3_CH1/SPI1_MISO], 57 PB5/I2C1_SMBA/SPI3_MOSI/I2S3_SD[TIM3_CH2/SPI1_MOSI], 58 PB6/I2C1_SCL/TIM4_CH1[USART1_TX], 59 PB7/I2C1_SDA/TIM4_CH2[USART1_RX], 60 BOOT0, 61 PB8/TIM4_CH3/SDIO_D4[I2C1_SCL/CAN_RX], 62 PB9/TIM4_CH4/SDIO_D5[I2C1_SDA/CAN_TX], 63 VSS_3, 64 VDD_3

## STM32F103xCDE LQFP64_1
designator U?, comment STM32F103RCT6
footprint LQFP64_N (Thin QFP, 64-Leads, Body 10x10mm, Pitch 0.5mm, IPC Medium Density)
pins: 1 VABT, 2 PC13/TAMPER_RTC, 3 PC14/OSC32_IN, 4 PC15/OSC32_OUT, 5 PD0/OSC_IN[CAN_RX], 6 PD1/OSC_OUT[CAN_TX], 7 NRST, 8 PC0/ADC123_IN10, 9 PC1/ADC123_IN11, 10 PC2/ADC123_IN12, 11 PC3/ADC123_IN13, 12 VSSA, 13 VDDA, 14 PA0/WKUP/USART2_CTS/ADC123_IN0/TIM2_CH1_ETR/TIM5_CH1/TIM8_ETR, 15 PA1/USART2_RTS/ADC123_IN1/TIM5_CH2/TIM2_CH2, 16 PA2/USART2_TX/TIM5_CH3/ADC123_IN2/TIM2_CH3, 17 PA3/USART2_RX/TIM5_CH4/ADC123_IN3/TIM2_CH4, 18 VSS_4, 19 VDD_4, 20 PA4/USART2_CK/DAC_OUT1/ADC12_IN4, 21 PA5/SPI1_SCK/DAC_OUT2/ADC12_IN5, 22 PA6/SPI1_MISO/TIM8_BKIN/ADC12_IN6/TIM3_CH1, 23 PA7/SPI1_MOSI/TIM8_CH1N/ADC12_IN7/TIM3_CH2, 24 PC4/ADC12_IN14, 25 PC5/ADC12_IN15, 26 PB0/ADC12_IN8/TIM3_CH3/TIM8_CH2N[TIM1_CH2N], 27 PB1/ADC12_IN9/TIM3_CH4/TIM8_CH3N[TIM1_CH3N], 28 PB2/BOOT1, 29 PB10/I2C2_SCL/USART3_TX[TIM2_CH3], 30 PB11/I2C2_SDA/USART3_RX[TIM2_CH4], 31 VSS_1, 32 VDD_1, 33 PB12/SPI2_NSS/I2S2_WS/I2C2_SMBA/USART3_CK/TIM1_BKIN, 34 PB13/SPI2_SCK/I2S2_CK/USART3_CTS/TIM1_CH1N, 35 PB14/SPI2_MISO/TIM1_CH2N/USART3_RTS, 36 PB15/SPI2_MOSI/I2S2_SD/TIM1_CH3N, 37 PC6/I2S2_MCK/TIM8_CH1/SDIO_D6[TIM3_CH1], 38 PC7/I2S3_MCK/TIM8_CH2/SDIO_D7[TIM3_CH2], 39 PC8/TIM8_CH3/SDIO_D0[TIM3_CH3], 40 PC9/TIM8_CH4/SDIO_D1[TIM3_CH4], 41 PA8/USART1_CK/TIM1_CH1/MCO, 42 PA9/USART1_TX/TIM1_CH2, 43 PA10/USART1_RX/TIM1_CH3, 44 PA11/USART1_CTS/USBDM/CAN_RX/TIM1_CH4, 45 PA12/USART1_RTS/USBDP/CAN_TX/TIM1_ETR, 46 PA13/JTMS, 47 VSS_2, 48 VDD_2, 49 PA14/JTCK/SWCLK, 50 PA15/JTDI/SPI3_NSS/I2S3_WS[TIM2_CH1_ETR/SPI1_NSS], 51 PC10/USART4_TX/SDIO_D2[USART3_TX], 52 PC11/USART4_RX/SDIO_D3[USART3_RX], 53 PC12/USART5_TX/SDIO_CK[USART3_CK], 54 PD2/TIM3_ETR/USART5_RX/SDIO_CMID, 55 PB3/JTDO/SPI3_SCK/I2S3_CK[TRACESWO/TIM2_CH2/SPI1_CK], 56 PB4/NJTRST/SPI3_MISO[TIM3_CH1/SPI1_MISO], 57 PB5/I2C1_SMBA/SPI3_MOSI/I2S3_SD[TIM3_CH2/SPI1_MOSI], 58 PB6/I2C1_SCL/TIM4_CH1[USART1_TX], 59 PB7/I2C1_SDA/TIM4_CH2[USART1_RX], 60 BOOT0, 61 PB8/TIM4_CH3/SDIO_D4[I2C1_SCL/CAN_RX], 62 PB9/TIM4_CH4/SDIO_D5[I2C1_SDA/CAN_TX], 63 VSS_3, 64 VDD_3

## Switch_6pin
designator S?, comment Sw_6
6脚按钮开关
footprint SW_6pin (6脚按钮开关)
pins: 1, 2, 3, 4, 5, 6

## TP4056
designator U?
锂电池充电管理
footprint SOIC-8P
pins: 1 TEMP, 2 PROG, 3 GND, 4 VCC, 5 BAT, 6 ~{STDBY}, 7 ~{CHRG}, 8 CE

## tps54331
designator U?
降压芯片
footprint tps54331
pins: 1 BOOT, 2 VIN, 3 EN, 4 SS, 5 VSENS, 6 COMP, 7 GND, 8 PH

## Tps54360
designator U?
60V_IN/3.5A_OUT
footprint SOP8
pins: 1 BOOT, 2 VIN, 3 EN, 4 RT/CLK, 5 FB, 6 COMP, 7 GND, 8 SW

## TPS61088
designator U?
升压芯片
footprint QFN20_pad (QFN, 20-Leads, Body 4.50x3.50mm, Pitch 0.50mm/1.50mm, Thermal Pad 3.05x2.05mm, IPC Medium Density)
pins: 0 Shell, 1 VCC, 2 EN, 3 FSW, 4 SW, 5 SW, 6 SW, 7 SW, 8 BOOT, 9 VIN, 10 SS, 11 NC, 12 NC, 13 MODE, 14 VOUT, 15 VOUT, 16 VOUT, 17 FB, 18 COMP, 19 ILIM, 20 AGND

## UA78M33CDC
designator U?
降压芯片3v3
footprint SOT223
pins: 1 INPUT, 2 GND, 3 OUTPUT, 4 GND

## W25Q64
designator U?
FLSH芯片; PCB DECAL: SO8WB
footprint SO8WB
pins: 1 C~{S}, 2 DO, 3 W~{P}, 4 GND, 5 DIO, 6 CLK, 7 HOL~{D}, 8 VCC

## WLT-24
designator U?, comment WLT-2433Z
footprint WLT-24XX
footprint WLT24xxSZ-SMD
pins: 1 AD0, 2 RUN_LED, 3 NET_LED, 4 ALM_LED, 5 SLEEP, 6 RS485EN, 7 IO0, 8 IO1, 9 WDO, 10 ISP, 11 ISPEN, 12 PRO, 13 GND, 14 DEF, 15 GND, 16 NC, 17 #RST, 18 232R/A, 19 232T/B, 20 NC, 21 TXD, 22 RXD, 23 +5V, 24 GND
2 alternate drawings of the same symbol

## XC6206P122
designator U?, comment XC6202
max6V_in_TO_1.2-5V_output
footprint SOT23-3
pins: 1 GND, 2 VOUT, 3 VIN

## XL6007
designator U?
升压芯片
footprint SOIC-8
pins: 1 EN, 2 VIN, 3 FB, 4 NC hidden, 5 SW, 6 SW, 7 GND, 8 GND